# EAGLE library part PROTON-C-SIMPLE (library proton-c)
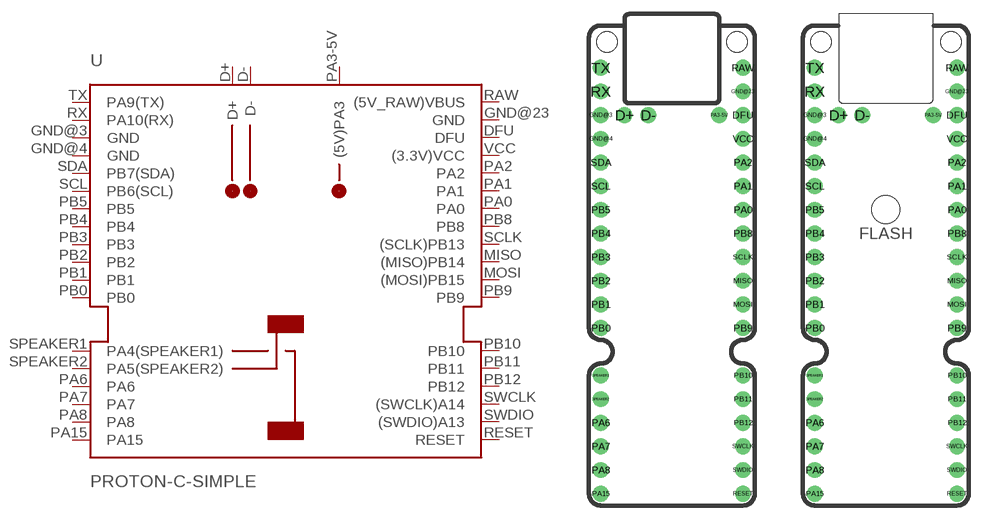
[diagram p0: symbol with the pads of PROTON-C; footprints PROTON-C, PROTON-C-BOTTOM]

Designator prefix -

## PROTON-C-SIMPLE  [PROTON-C]
D+  D+
D-  D-
DFU  DFU
GND@3  GND
GND@4  GND
GND@23  GND
MISO  (MISO)PB14
MOSI  (MOSI)PB15
PA0  PA0
PA1  PA1
PA2  PA2
PA3-5V  (5V)PA3
PA6  PA6
PA7  PA7
PA8  PA8
PA15  PA15
PB0  PB0
PB1  PB1
PB2  PB2
PB3  PB3
PB4  PB4
PB5  PB5
PB8  PB8
PB9  PB9
PB10  PB10
PB11  PB11
PB12  PB12
RAW  (5V_RAW)VBUS
RESET  RESET
RX  PA10(RX)
SCL  PB6(SCL)
SCLK  (SCLK)PB13
SDA  PB7(SDA)
SPEAKER1  PA4(SPEAKER1)
SPEAKER2  PA5(SPEAKER2)
SWCLK  (SWCLK)A14
SWDIO  (SWDIO)A13
TX  PA9(TX)
VCC  (3.3V)VCC

## PROTON-C-SIMPLE-BOTTOM  [PROTON-C-BOTTOM]
Pads as for PROTON-C

## PROTON-C-SIMPLE-SPEAKER  [PROTON-C-SPEAKER]
Pads as for PROTON-C

## Footprint PROTON-C (pad centres in mm)
Standard Proton-C Footprint. This allows you to mount the Proton-C on the top of a board. It has a cutout to allow the speaker to be heard.
drill 0.9 pad 1.7: D+ -5.08,8.89; D- -2.54,8.89; DFU 7.62,8.89; GND@3 -7.62,8.89; GND@4 -7.62,6.35; GND@23 7.62,11.43; MISO 7.62,-8.89; MOSI 7.62,-11.43; PA0 7.62,-1.27; PA1 7.62,1.27; PA2 7.62,3.81; PA3-5V 5.08,8.89; PA6 -7.62,-24.13; PA7 -7.62,-26.67; PA8 -7.62,-29.21; PA15 -7.62,-31.75; PB0 -7.62,-13.97; PB1 -7.62,-11.43; PB2 -7.62,-8.89; PB3 -7.62,-6.35; PB4 -7.62,-3.81; PB5 -7.62,-1.27; PB8 7.62,-3.81; PB9 7.62,-13.97; PB10 7.62,-19.05; PB11 7.62,-21.59; PB12 7.62,-24.13; RAW 7.62,13.97; RESET 7.62,-31.75; RX -7.62,11.43; SCL -7.62,1.27; SCLK 7.62,-6.35; SDA -7.62,3.81; SPEAKER1 -7.62,-19.05; SPEAKER2 -7.62,-21.59; SWCLK 7.62,-26.67; SWDIO 7.62,-29.21; TX -7.62,13.97; VCC 7.62,6.35
hole 2.2 at -6.97,16.77
hole 2.2 at 6.97,16.77

## Footprint PROTON-C-BOTTOM (pad centres in mm)
Footprint for Proton-C when mounted top-up to the bottom of the board. This has holes cut out to accomodate the USB connector and to allow you to press the RESET button using a small tool. This will allow you to place the top side of the Proton-C towards the board and still have a low profile.
drill 0.9 pad 1.7: D+ -5.08,10.16; D- -2.54,10.16; DFU 7.62,10.16; GND@3 -7.62,10.16; GND@4 -7.62,7.62; GND@23 7.62,12.7; MISO 7.62,-7.62; MOSI 7.62,-10.16; PA0 7.62,0; PA1 7.62,2.54; PA2 7.62,5.08; PA3-5V 5.08,10.16; PA6 -7.62,-22.86; PA7 -7.62,-25.4; PA8 -7.62,-27.94; PA15 -7.62,-30.48; PB0 -7.62,-12.7; PB1 -7.62,-10.16; PB2 -7.62,-7.62; PB3 -7.62,-5.08; PB4 -7.62,-2.54; PB5 -7.62,0; PB8 7.62,-2.54; PB9 7.62,-12.7; PB10 7.62,-17.78; PB11 7.62,-20.32; PB12 7.62,-22.86; RAW 7.62,15.24; RESET 7.62,-30.48; RX -7.62,12.7; SCL -7.62,2.54; SCLK 7.62,-5.08; SDA -7.62,5.08; SPEAKER1 -7.62,-17.78; SPEAKER2 -7.62,-20.32; SWCLK 7.62,-25.4; SWDIO 7.62,-27.94; TX -7.62,15.24; VCC 7.62,7.62
hole 2.2 at -6.97,18.04
hole 2.2 at 6.97,18.04
hole 3 at 0,0

## Footprint PROTON-C-SPEAKER (pad centres in mm)
Standard Proton-C Footprint. This allows you to mount the Proton-C on the top of a board. It has a cutout to allow the speaker to be heard.
drill 0.9 pad 1.7: D+ -5.08,8.89; D- -2.54,8.89; DFU 7.62,8.89; GND@3 -7.62,8.89; GND@4 -7.62,6.35; GND@23 7.62,11.43; MISO 7.62,-8.89; MOSI 7.62,-11.43; PA0 7.62,-1.27; PA1 7.62,1.27; PA2 7.62,3.81; PA3-5V 5.08,8.89; PA6 -7.62,-24.13; PA7 -7.62,-26.67; PA8 -7.62,-29.21; PA15 -7.62,-31.75; PB0 -7.62,-13.97; PB1 -7.62,-11.43; PB2 -7.62,-8.89; PB3 -7.62,-6.35; PB4 -7.62,-3.81; PB5 -7.62,-1.27; PB8 7.62,-3.81; PB9 7.62,-13.97; PB10 7.62,-19.05; PB11 7.62,-21.59; PB12 7.62,-24.13; RAW 7.62,13.97; RESET 7.62,-31.75; RX -7.62,11.43; SCL -7.62,1.27; SCLK 7.62,-6.35; SDA -7.62,3.81; SPEAKER1 -7.62,-19.05; SPEAKER2 -7.62,-21.59; SWCLK 7.62,-26.67; SWDIO 7.62,-29.21; TX -7.62,13.97; VCC 7.62,6.35
hole 2.2 at -6.97,16.77
hole 2.2 at 6.97,16.77